# EAGLE library part KONASHI1.0 (library konashiv2)
konashiは、スマホ・タブレット端末と連携するフィジカルコンピューティングのためのツールキットです。
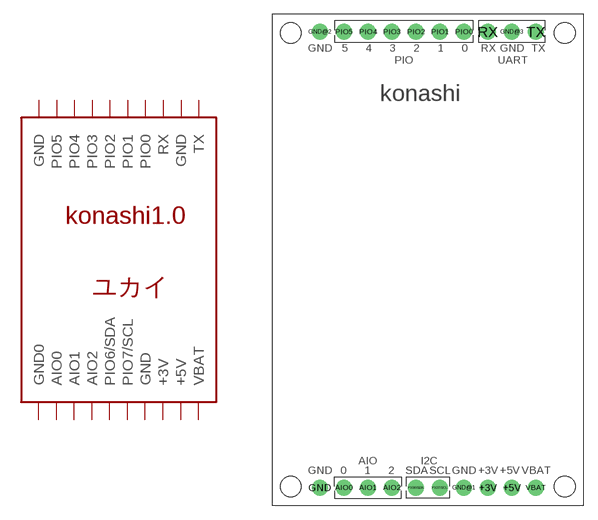
[diagram p0: symbol with the pads of KONASHI; footprint KONASHI]

Designator prefix -

## KONASHI1.0  [KONASHI]
+3V  +3V  pwr
+5V  +5V  pwr
AIO0  AIO0
AIO1  AIO1
AIO2  AIO2
GND  GND0  pwr
GND@1  GND  pwr
GND@2  GND  pwr
GND@3  GND  pwr
PIO0  PIO0
PIO1  PIO1
PIO2  PIO2
PIO3  PIO3
PIO4  PIO4
PIO5  PIO5
PIO6/SDA  PIO6/SDA
PIO7/SCL  PIO7/SCL
RX  RX
TX  TX
VBAT  VBAT  pwr

## Footprint KONASHI (pad centres in mm)
konashiは、スマホ・タブレット端末と連携するフィジカルコンピューティングのためのツールキットです。
drill 1 pad 1.676: +3V 7.62,-25.4; +5V 10.16,-25.4; AIO0 -7.62,-25.4; AIO1 -5.08,-25.4; AIO2 -2.54,-25.4; GND -10.16,-25.4; GND@1 5.08,-25.4; GND@2 -10.16,22.86; GND@3 10.16,22.86; PIO0 5.08,22.86; PIO1 2.54,22.86; PIO2 0,22.86; PIO3 -2.54,22.86; PIO4 -5.08,22.86; PIO5 -7.62,22.86; PIO6/SDA 0,-25.4; PIO7/SCL 2.54,-25.4; RX 7.62,22.86; TX 12.7,22.86; VBAT 12.7,-25.4
hole 2.2 at -13.23,22.73
hole 2.2 at 15.77,22.73
hole 2.2 at -13.23,-25.27
hole 2.2 at 15.77,-25.27